# Altium footprint library Modulos.PcbLib: 4 footprints
Each footprint in its own frame and in the unit in brackets; x right, y up, seen from the top. Pads: shape width x height; smd on the part's side, far side on the other; paste and mask are expansions set on the pad; w line width, h text height; cw(c..) or ccw(c..) is an arc to the next point about the centre after c.
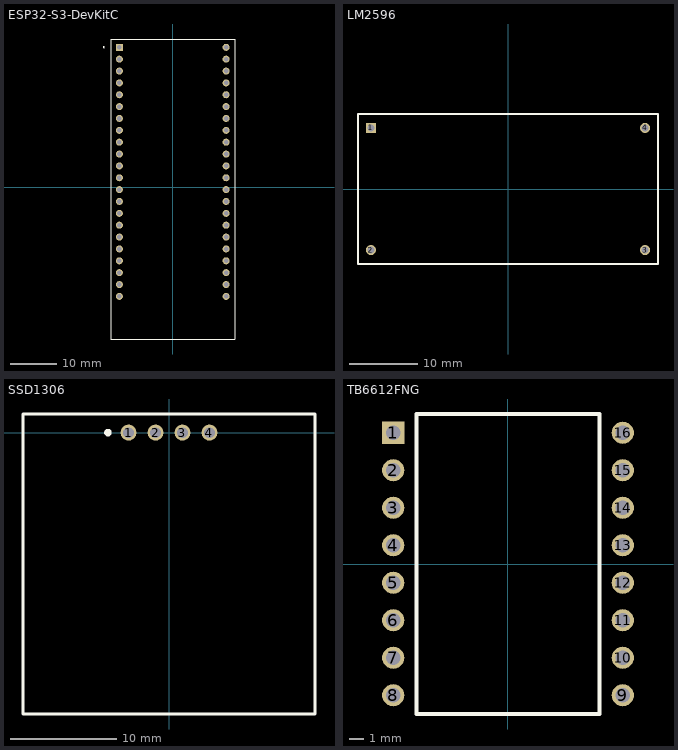
[diagram p0: the footprints below, top view; thin cyan lines are the x and y axes]

## ESP32-S3-DevKitC [mm]
pads (44):
  rect 1.5x1.5 / inner round 1.5 / far side rect 1.5x1.5 hole 1: J1_1(-11.43,29.97)
  round 1.5 hole 1: J1_2(-11.43,27.43) J1_3(-11.43,24.89) J1_4(-11.43,22.35) J1_5(-11.43,19.81) J1_6(-11.43,17.27) J1_7(-11.43,14.73) J1_8(-11.43,12.19) J1_9(-11.43,9.65) J1_10(-11.43,7.11) J1_11(-11.43,4.57) J1_12(-11.43,2.03) J1_13(-11.43,-0.51) J1_14(-11.43,-3.05) J1_15(-11.43,-5.59) J1_16(-11.43,-8.13) J1_17(-11.43,-10.67) J1_18(-11.43,-13.21) J1_19(-11.43,-15.75) J1_20(-11.43,-18.29) J1_21(-11.43,-20.83) J1_22(-11.43,-23.37) J2_1(11.43,29.97) J2_2(11.43,27.43) J2_3(11.43,24.89) J2_4(11.43,22.35) J2_5(11.43,19.81) J2_6(11.43,17.27) J2_7(11.43,14.73) J2_8(11.43,12.19) J2_9(11.43,9.65) J2_10(11.43,7.11) J2_11(11.43,4.57) J2_12(11.43,2.03) J2_13(11.43,-0.51) J2_14(11.43,-3.05) J2_15(11.43,-5.59) J2_16(11.43,-8.13) J2_17(11.43,-10.67) J2_18(11.43,-13.21) J2_19(11.43,-15.75) J2_20(11.43,-18.29) J2_21(11.43,-20.83) J2_22(11.43,-23.37)
Top Overlay:
  circle w0.254: c-14.75,30 r0.1
  lines w0.254: -13.25,-32.5 -13.25,31.75 13.25,31.75 13.25,-32.5 -13.25,-32.5
3D body "step_temp.STEP": height 7.39, standoff -6, extent -12.7,-31.96 12.7,37.68

## LM2596 [mm]
pads (4):
  rect 1.5x1.5 hole 1: 1(-20.1,8.95)
  round 1.5 hole 1: 2(-20.1,-8.95) 3(20.1,-8.95) 4(20.1,8.95)
Top Overlay:
  lines w0.254: -22,-11 22,-11 22,11 -22,11 -22,-11
3D body "Montagem-LM2596.STEP": height 18.35, standoff -3.58, extent -21.55,-10.603 21.65,10.647

## SSD1306 [mm]
pads (4):
  round 1.5 hole 1: 1(-3.81,0) 2(-1.27,0) 3(1.27,0) 4(3.81,0)
Top Overlay:
  circle w0.5: c-5.75,0 r0.1
  lines w0.254: -13.75,-26.5 -13.75,1.75 13.75,1.75 13.75,-26.5 -13.75,-26.5
3D body "OLED TFT 0.96 inch 64x128 monochrome.STEP": height 11.1, standoff -1.2, extent -13.65,-26.3 13.65,1.5

## TB6612FNG [mm]
pads (16):
  rect 1.5x1.5 hole 1: 1(-7.775,8.89)
  round 1.5 hole 1: 2(-7.775,6.35) 3(-7.775,3.81) 4(-7.775,1.27) 5(-7.775,-1.27) 6(-7.775,-3.81) 7(-7.775,-6.35) 8(-7.775,-8.89) 9(7.775,-8.89) 10(7.775,-6.35) 11(7.775,-3.81) 12(7.775,-1.27) 13(7.775,1.27) 14(7.775,3.81) 15(7.775,6.35) 16(7.775,8.89)
Top Overlay:
  lines w0.254: -6.19,-10.16 6.19,-10.16 6.19,10.16 -6.19,10.16 -6.19,-10.16
3D body "TB6612FNG_Lower Pins.STEP": height 10.55, standoff -1.5, extent -9.125,-10.5 9.125,10.5